# Altium schematic symbol library WE-FLYLT.SchLib: 42 symbols
Pins are listed as number, name and electrical type; pins without a type are passive.

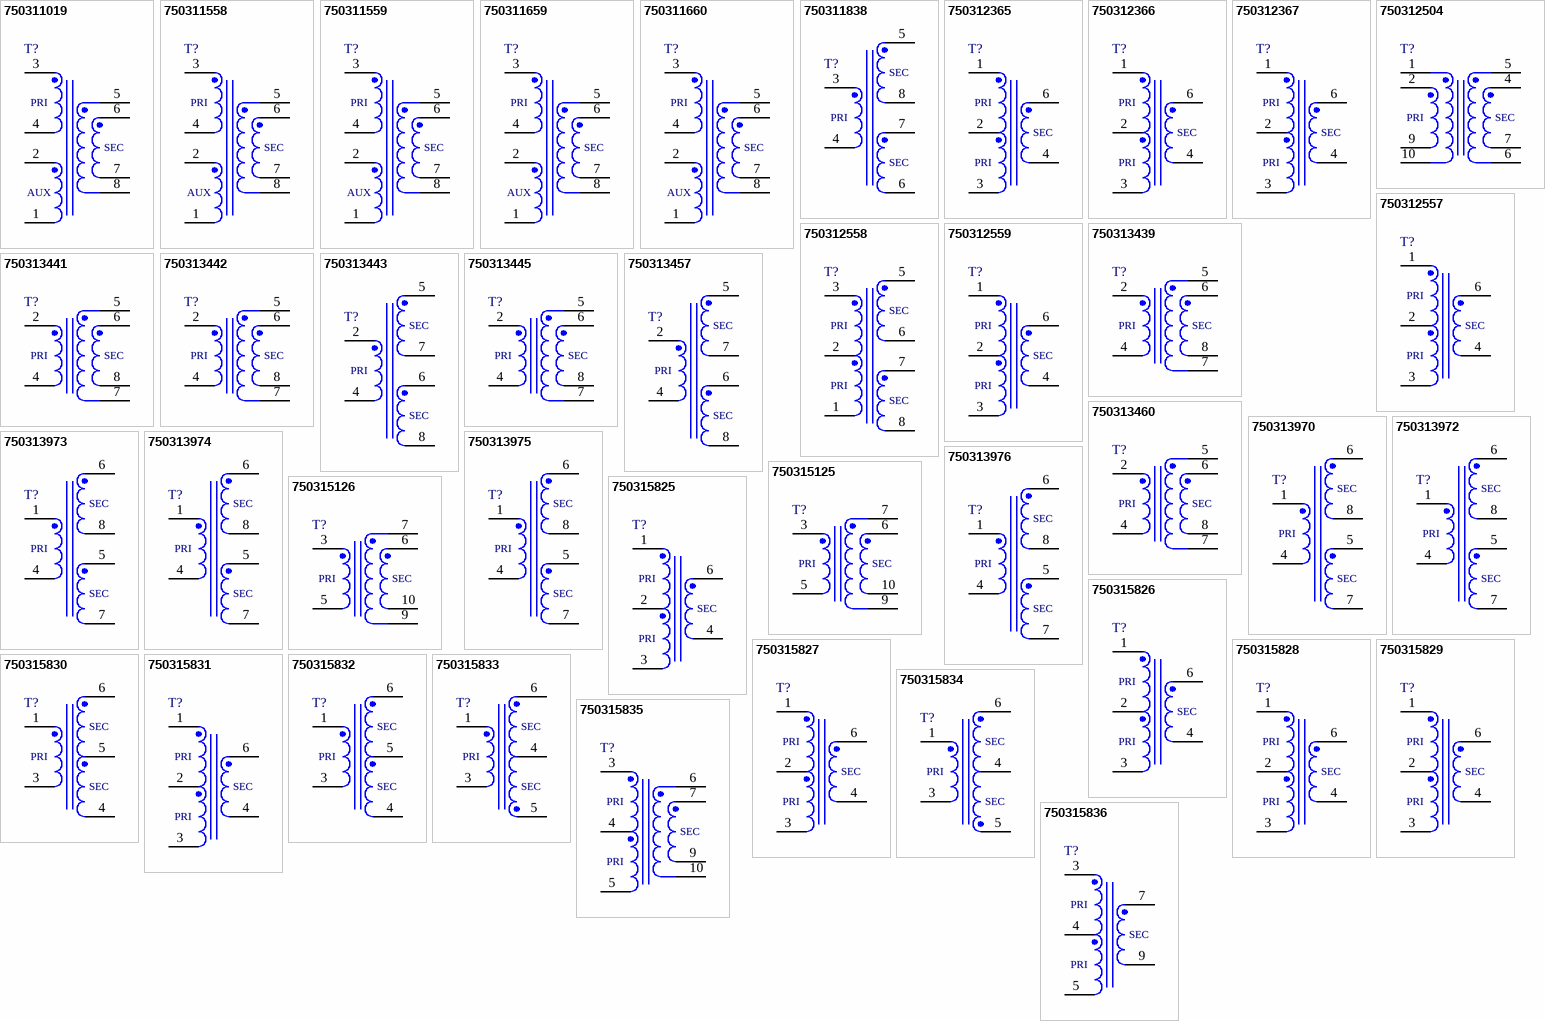
[diagram p0: symbols 750311019 to 750315836]

## 750311019
designator T?
pins: 1, 2, 3, 4, 5, 6, 7, 8
text: PRI; SEC; AUX

## 750311558
designator T?
pins: 1, 2, 3, 4, 5, 6, 7, 8
text: PRI; SEC; AUX

## 750311559
designator T?
pins: 1, 2, 3, 4, 5, 6, 7, 8
text: PRI; SEC; AUX

## 750311659
designator T?
pins: 1, 2, 3, 4, 5, 6, 7, 8
text: PRI; SEC; AUX

## 750311660
designator T?
pins: 1, 2, 3, 4, 5, 6, 7, 8
text: PRI; SEC; AUX

## 750311838
designator T?
pins: 3, 4, 5, 6, 7, 8
text: SEC; PRI

## 750312365
designator T?
pins: 1, 2, 3, 4, 6
text: PRI; SEC

## 750312366
designator T?
pins: 1, 2, 3, 4, 6
text: PRI; SEC

## 750312367
designator T?
pins: 1, 2, 3, 4, 6
text: PRI; SEC

## 750312504
designator T?
pins: 1, 2, 4, 5, 6, 7, 9, 10
text: PRI; SEC

## 750312557
designator T?
pins: 1, 2, 3, 4, 6
text: PRI; SEC

## 750312558
designator T?
pins: 1, 2, 3, 5, 6, 7, 8
text: SEC; PRI

## 750312559
designator T?
pins: 1, 2, 3, 4, 6
text: PRI; SEC

## 750313439
designator T?
pins: 2, 4, 5, 6, 7, 8
text: PRI; SEC

## 750313441
designator T?
pins: 2, 4, 5, 6, 7, 8
text: PRI; SEC

## 750313442
designator T?
pins: 2, 4, 5, 6, 7, 8
text: PRI; SEC

## 750313443
designator T?
pins: 2, 4, 5, 6, 7, 8
text: SEC; PRI

## 750313445
designator T?
pins: 2, 4, 5, 6, 7, 8
text: PRI; SEC

## 750313457
designator T?
pins: 2, 4, 5, 6, 7, 8
text: SEC; PRI

## 750313460
designator T?
pins: 2, 4, 5, 6, 7, 8
text: PRI; SEC

## 750313970
designator T?
pins: 1, 4, 5, 6, 7, 8
text: SEC; PRI

## 750313972
designator T?
pins: 1, 4, 5, 6, 7, 8
text: SEC; PRI

## 750313973
designator T?
pins: 1, 4, 5, 6, 7, 8
text: SEC; PRI

## 750313974
designator T?
pins: 1, 4, 5, 6, 7, 8
text: SEC; PRI

## 750313975
designator T?
pins: 1, 4, 5, 6, 7, 8
text: SEC; PRI

## 750313976
designator T?
pins: 1, 4, 5, 6, 7, 8
text: SEC; PRI

## 750315125
designator T?
pins: 3, 5, 6, 7, 9, 10
text: PRI; SEC

## 750315126
designator T?
pins: 3, 5, 6, 7, 9, 10
text: PRI; SEC

## 750315825
designator T?
pins: 1, 2, 3, 4, 6
text: PRI; SEC

## 750315826
designator T?
pins: 1, 2, 3, 4, 6
text: PRI; SEC

## 750315827
designator T?
pins: 1, 2, 3, 4, 6
text: PRI; SEC

## 750315828
designator T?
pins: 1, 2, 3, 4, 6
text: PRI; SEC

## 750315829
designator T?
pins: 1, 2, 3, 4, 6
text: PRI; SEC

## 750315830
designator T?
pins: 1, 3, 4, 5, 6
text: SEC; PRI

## 750315831
designator T?
pins: 1, 2, 3, 4, 6
text: PRI; SEC

## 750315832
designator T?
pins: 1, 3, 4, 5, 6
text: SEC; PRI

## 750315833
designator T?
pins: 1, 3, 4, 5, 6
text: SEC; PRI

## 750315834
designator T?
pins: 1, 3, 4, 5, 6
text: SEC; PRI

## 750315835
designator T?
pins: 3, 4, 5, 6, 7, 9, 10
text: PRI; SEC

## 750315836
designator T?
pins: 3, 4, 5, 7, 9
text: PRI; SEC

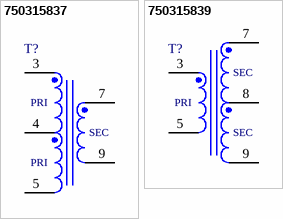
[diagram p1: symbols 750315837 to 750315839]

## 750315837
designator T?
pins: 3, 4, 5, 7, 9
text: PRI; SEC

## 750315839
designator T?
pins: 3, 5, 7, 8, 9
text: SEC; PRI